# Altium schematic symbol library TVS_DIODE_UNI_2CHAN.SCHLIB: 1 symbol
Pins are listed as number, name and electrical type; pins without a type are passive.

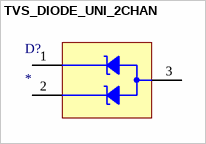
[diagram p0: symbol TVS_DIODE_UNI_2CHAN]

## TVS_DIODE_UNI_2CHAN
designator D?
Value: *
pins: 1 I/O 1, 2 GND, 3 I/O 2